# EAGLE library part INA125P (library burr-brown)
Instrumentation Amplifier with Precision Voltage Reference
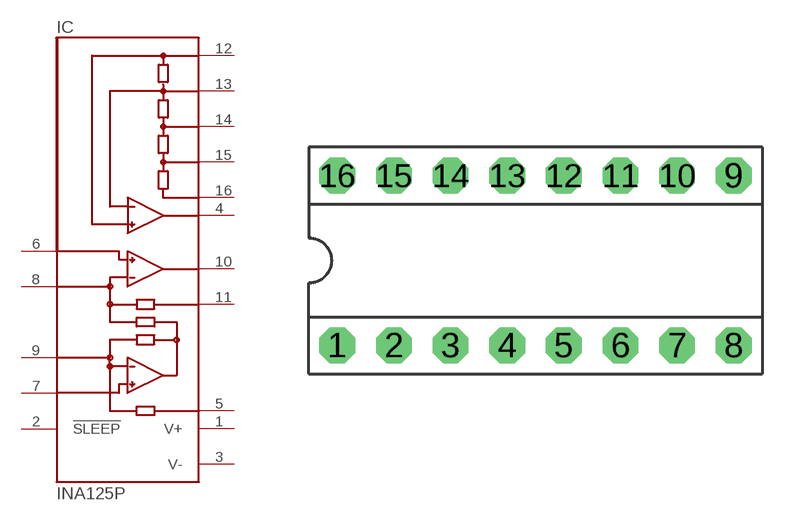
[diagram p244: symbol with the pads of DIP-16; footprint DIP-16]

Designator prefix IC

## INA125P  [DIP-16]
1  V+  pwr
2  !SLEEP  in
3  V-  pwr
4  REFOUT  out
5  REF  pas
6  +IN  in
7  -IN  in
8  RG  pas
9  RG  pas
10  OUT  out
11  SENSE  pas
12  REFCOM  pas
13  REFBG  out
14  REF2.5  out
15  REF5  out
16  REF10  out

## Footprint DIP-16 (pad centres in mm)
drill 0.813 pad 1.6 octagon: 1 -8.89,-3.81; 2 -6.35,-3.81; 3 -3.81,-3.81; 4 -1.27,-3.81; 5 1.27,-3.81; 6 3.81,-3.81; 7 6.35,-3.81; 8 8.89,-3.81; 9 8.89,3.81; 10 6.35,3.81; 11 3.81,3.81; 12 1.27,3.81; 13 -1.27,3.81; 14 -3.81,3.81; 15 -6.35,3.81; 16 -8.89,3.81